# Altium footprint library PcbLib1.PcbLib: 2 footprints
Each footprint in its own frame and in the unit in brackets; x right, y up, seen from the top. Pads: shape width x height; smd on the part's side, far side on the other; paste and mask are expansions set on the pad; w line width, h text height; cw(c..) or ccw(c..) is an arc to the next point about the centre after c.
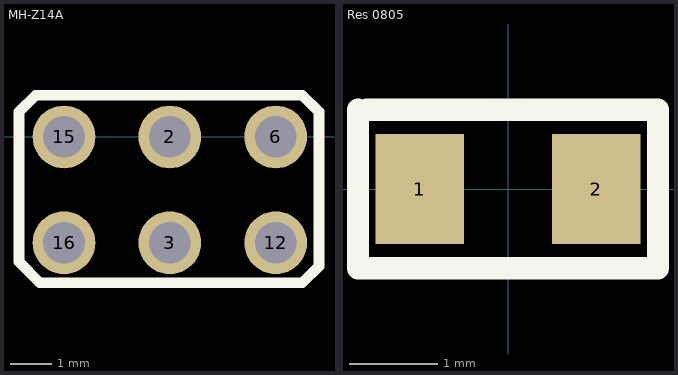
[diagram p0: the footprints below, top view; thin cyan lines are the x and y axes]

## MH-Z14A [mm]
pads (6):
  round 1.508 hole 1: 2(7.62,0) 3(7.62,-2.54) 6(10.16,0) 12(10.16,-2.54) 15(5.08,0) 16(5.08,-2.54)
Top Overlay:
  lines w0.254: 4,-3 4,-0.3 4,0.6 4.4,1 10.8,1 11.2,0.6 11.2,-3.1 10.8,-3.5 4.5,-3.5 4,-3

## Res 0805 [mm]
pads (2):
  rect 1x1.25 smd: 1(-1,0) 2(1,0)
Top Overlay:
  lines w0.254: -1.7,0.9 -1.7,0.8 -1.7,-0.9 1.7,-0.9 1.7,0.9 -1.6,0.9